# Altium schematic symbol library steve_breakout.SchLib: 5 symbols
Pins are listed as number, name and electrical type; pins without a type are passive.

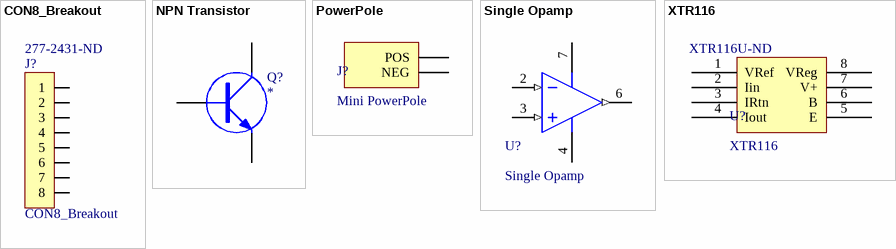
[diagram p0: symbols CON8_Breakout to XTR116]

## CON8_Breakout
designator J?
277-2431-ND; Supplier 1: Digi-Key; Supplier Part Number 1: 277-2431-ND
footprint M12_8p
pins: 1, 2, 3, 4, 5, 6, 7, 8

## NPN Transistor
designator Q?
NPN Transistor
footprint SOT23-3
pins: 1 B, 2 E, 3 C

## PowerPole
designator J?, comment Mini PowerPole
footprint POWERPOLE25A-2
pins: NEG (power), POS (power)

## Single Opamp
designator U?
footprint SO8
pins: 2 IN- (in), 3 IN+ (in), 4 V+ (power), 6 OUT (out), 7 V+ (power)

## XTR116
designator U?  Supplier Part Number 1: XTR116U-ND
4-20mA Current loop transmitter; Manufacturer: Texas Instruments; Manufacturer Part Number: XTR116U; Description: IC 4 TO 20MA TRANSMITTER 8-SOIC; Input Type: Voltage; Interface: 2-Wire; Current - Supply: 20mA; Supplier 1: Digi-Key; RoHS: RoHS Compliant; Category: Integrated Circuits (ICs); Stock 1: 1861; Pricing 1: 1=5.3, 25=4.2588, 100=3.8804, 250=3.50176, 500=3.1421, 750=2.83925, 1000=2.64996 (AUD); Packaging: Tube; Type: Current Transmitter; Output Type: Voltage; Mounting Type: Surface Mount; Package / Case: 8-SOIC (0.154", 3.90mm Width); Supplier Device Package: 8-SOIC; ComponentLink1URL: http://www.ti.com/lit/ds/symlink/xtr115.pdf; ComponentLink1Description: http://www.ti.com/lit/ds/symlink/xtr115.pdf
footprint SO8
pins: 1 VRef, 2 Iin, 3 IRtn, 4 Iout, 5 E, 6 B, 7 V+, 8 VReg